# Altium schematic symbol library APX823.SchLib: 1 symbol
Pins are listed as number, name and electrical type; pins without a type are passive.

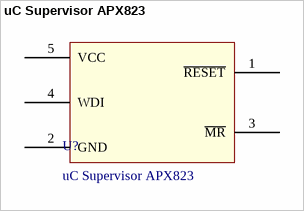
[diagram p0: symbol uC Supervisor APX823]

## uC Supervisor APX823
designator U?
Microprocessor Supervisory Circuit; Manufacturer Part No.: APX823-31W5G-7; Vthresh: 3.08V; Digi-Key Part No.: APX823-31W5GDICT-ND
footprint APX823 (Microprocessor Supervisory Circuit)
pins: 1 ~{RESET}, 2 GND, 3 ~{MR}, 4 WDI, 5 VCC